# Altium footprint library 74AVC9112GTX.PcbLib: 1 footprints
Each footprint in its own frame and in the unit in brackets; x right, y up, seen from the top. Pads: shape width x height; smd on the part's side, far side on the other; paste and mask are expansions set on the pad; w line width, h text height; cw(c..) or ccw(c..) is an arc to the next point about the centre after c.
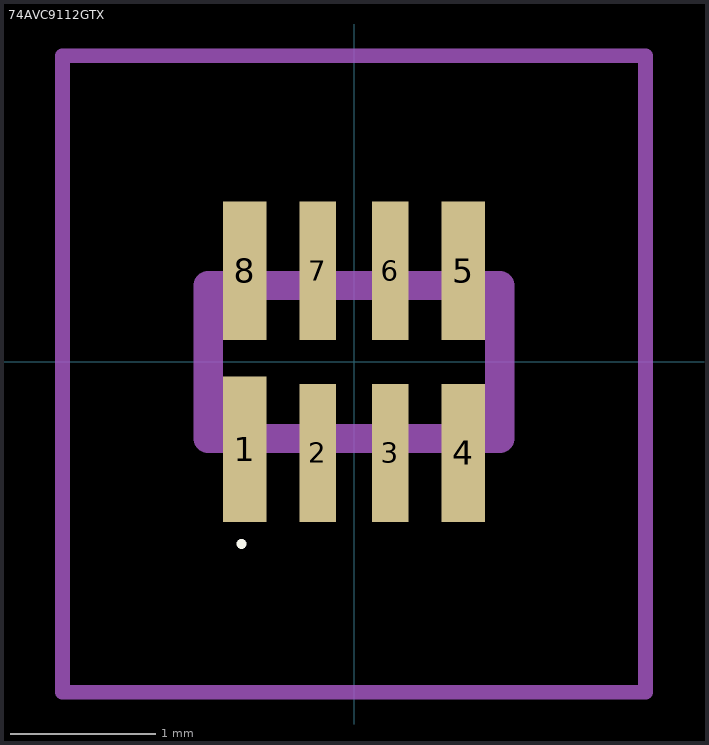
[diagram p0: the footprint, top view; thin cyan lines are the x and y axes]

## 74AVC9112GTX [mm]
pads (8):
  rect 0.3x1 smd: 1(-0.75,-0.6)
  rect 0.25x0.95 smd: 2(-0.25,-0.625) 3(0.25,-0.625) 6(0.25,0.625) 7(-0.25,0.625)
  rect 0.3x0.95 smd: 4(0.75,-0.625) 5(0.75,0.625) 8(-0.75,0.625)
Top Overlay:
  lines w0.034: -0.789,-1.249 -0.789,-1.249 ; -0.789,-1.249 ccw(c-0.772,-1.249) -0.755,-1.249 ; -0.789,-1.249 cw(c-0.772,-1.249) -0.755,-1.249 ; -0.755,-1.249 -0.755,-1.249
Mechanical 15:
  lines w0.2: -1,-0.525 1,-0.525 1,0.525 -1,0.525 -1,-0.525
Mechanical 20:
  lines w0.1: -2,-2.266 2,-2.266 2,2.1 -2,2.1 -2,-2.266